# Altium footprint library PQFP-256_40x28x05P.PcbLib: 1 footprints
Each footprint in its own frame and in the unit in brackets; x right, y up, seen from the top. Pads: shape width x height; smd on the part's side, far side on the other; paste and mask are expansions set on the pad; w line width, h text height; cw(c..) or ccw(c..) is an arc to the next point about the centre after c.
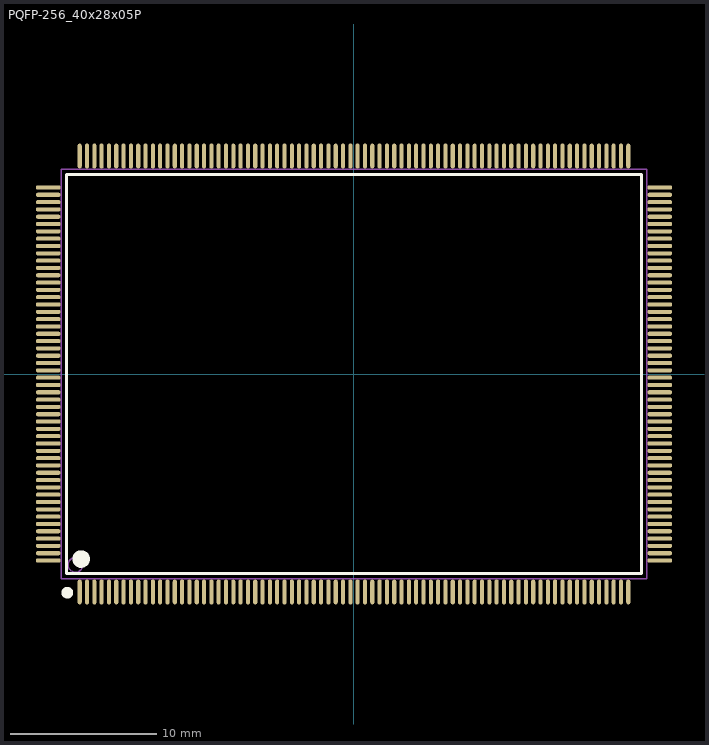
[diagram p0: the footprint, top view; thin cyan lines are the x and y axes]

## PQFP-256_40x28x05P [mm] "Shrink QFP, 256-Leads, Body 40x28 mm, Pitch 0.5mm, IPC Medium Density"
pads (256):
  oval 0.28x1.7 smd mask+0.051: 1(-18.75,-14.9) 2(-18.25,-14.9) 3(-17.75,-14.9) 4(-17.25,-14.9) 5(-16.75,-14.9) 6(-16.25,-14.9) 7(-15.75,-14.9) 8(-15.25,-14.9) 9(-14.75,-14.9) 10(-14.25,-14.9) 11(-13.75,-14.9) 12(-13.25,-14.9) 13(-12.75,-14.9) 14(-12.25,-14.9) 15(-11.75,-14.9) 16(-11.25,-14.9) 17(-10.75,-14.9) 18(-10.25,-14.9) 19(-9.75,-14.9) 20(-9.25,-14.9) 21(-8.75,-14.9) 22(-8.25,-14.9) 23(-7.75,-14.9) 24(-7.25,-14.9) 25(-6.75,-14.9) 26(-6.25,-14.9) 27(-5.75,-14.9) 28(-5.25,-14.9) 29(-4.75,-14.9) 30(-4.25,-14.9) 31(-3.75,-14.9) 32(-3.25,-14.9) 33(-2.75,-14.9) 34(-2.25,-14.9) 35(-1.75,-14.9) 36(-1.25,-14.9) 37(-0.75,-14.9) 38(-0.25,-14.9) 39(0.25,-14.9) 40(0.75,-14.9) 41(1.25,-14.9) 42(1.75,-14.9) 43(2.25,-14.9) 44(2.75,-14.9) 45(3.25,-14.9) 46(3.75,-14.9) 47(4.25,-14.9) 48(4.75,-14.9) 49(5.25,-14.9) 50(5.75,-14.9) 51(6.25,-14.9) 52(6.75,-14.9) 53(7.25,-14.9) 54(7.75,-14.9) 55(8.25,-14.9) 56(8.75,-14.9) 57(9.25,-14.9) 58(9.75,-14.9) 59(10.25,-14.9) 60(10.75,-14.9) 61(11.25,-14.9) 62(11.75,-14.9) 63(12.25,-14.9) 64(12.75,-14.9) 65(13.25,-14.9) 66(13.75,-14.9) 67(14.25,-14.9) 68(14.75,-14.9) 69(15.25,-14.9) 70(15.75,-14.9) 71(16.25,-14.9) 72(16.75,-14.9) 73(17.25,-14.9) 74(17.75,-14.9) 75(18.25,-14.9) 76(18.75,-14.9) 129(18.75,14.9) 130(18.25,14.9) 131(17.75,14.9) 132(17.25,14.9) 133(16.75,14.9) 134(16.25,14.9) 135(15.75,14.9) 136(15.25,14.9) 137(14.75,14.9) 138(14.25,14.9) 139(13.75,14.9) 140(13.25,14.9) 141(12.75,14.9) 142(12.25,14.9) 143(11.75,14.9) 144(11.25,14.9) 145(10.75,14.9) 146(10.25,14.9) 147(9.75,14.9) 148(9.25,14.9) 149(8.75,14.9) 150(8.25,14.9) 151(7.75,14.9) 152(7.25,14.9) 153(6.75,14.9) 154(6.25,14.9) 155(5.75,14.9) 156(5.25,14.9) 157(4.75,14.9) 158(4.25,14.9) 159(3.75,14.9) 160(3.25,14.9) 161(2.75,14.9) 162(2.25,14.9) 163(1.75,14.9) 164(1.25,14.9) 165(0.75,14.9) 166(0.25,14.9) 167(-0.25,14.9) 168(-0.75,14.9) 169(-1.25,14.9) 170(-1.75,14.9) 171(-2.25,14.9) 172(-2.75,14.9) 173(-3.25,14.9) 174(-3.75,14.9) 175(-4.25,14.9) 176(-4.75,14.9) 177(-5.25,14.9) 178(-5.75,14.9) 179(-6.25,14.9) 180(-6.75,14.9) 181(-7.25,14.9) 182(-7.75,14.9) 183(-8.25,14.9) 184(-8.75,14.9) 185(-9.25,14.9) 186(-9.75,14.9) 187(-10.25,14.9) 188(-10.75,14.9) 189(-11.25,14.9) 190(-11.75,14.9) 191(-12.25,14.9) 192(-12.75,14.9) 193(-13.25,14.9) 194(-13.75,14.9) 195(-14.25,14.9) 196(-14.75,14.9) 197(-15.25,14.9) 198(-15.75,14.9) 199(-16.25,14.9) 200(-16.75,14.9) 201(-17.25,14.9) 202(-17.75,14.9) 203(-18.25,14.9) 204(-18.75,14.9)
  oval 1.7x0.28 smd mask+0.051: 77(20.9,-12.75) 78(20.9,-12.25) 79(20.9,-11.75) 80(20.9,-11.25) 81(20.9,-10.75) 82(20.9,-10.25) 83(20.9,-9.75) 84(20.9,-9.25) 85(20.9,-8.75) 86(20.9,-8.25) 87(20.9,-7.75) 88(20.9,-7.25) 89(20.9,-6.75) 90(20.9,-6.25) 91(20.9,-5.75) 92(20.9,-5.25) 93(20.9,-4.75) 94(20.9,-4.25) 95(20.9,-3.75) 96(20.9,-3.25) 97(20.9,-2.75) 98(20.9,-2.25) 99(20.9,-1.75) 100(20.9,-1.25) 101(20.9,-0.75) 102(20.9,-0.25) 103(20.9,0.25) 104(20.9,0.75) 105(20.9,1.25) 106(20.9,1.75) 107(20.9,2.25) 108(20.9,2.75) 109(20.9,3.25) 110(20.9,3.75) 111(20.9,4.25) 112(20.9,4.75) 113(20.9,5.25) 114(20.9,5.75) 115(20.9,6.25) 116(20.9,6.75) 117(20.9,7.25) 118(20.9,7.75) 119(20.9,8.25) 120(20.9,8.75) 121(20.9,9.25) 122(20.9,9.75) 123(20.9,10.25) 124(20.9,10.75) 125(20.9,11.25) 126(20.9,11.75) 127(20.9,12.25) 128(20.9,12.75) 205(-20.9,12.75) 206(-20.9,12.25) 207(-20.9,11.75) 208(-20.9,11.25) 209(-20.9,10.75) 210(-20.9,10.25) 211(-20.9,9.75) 212(-20.9,9.25) 213(-20.9,8.75) 214(-20.9,8.25) 215(-20.9,7.75) 216(-20.9,7.25) 217(-20.9,6.75) 218(-20.9,6.25) 219(-20.9,5.75) 220(-20.9,5.25) 221(-20.9,4.75) 222(-20.9,4.25) 223(-20.9,3.75) 224(-20.9,3.25) 225(-20.9,2.75) 226(-20.9,2.25) 227(-20.9,1.75) 228(-20.9,1.25) 229(-20.9,0.75) 230(-20.9,0.25) 231(-20.9,-0.25) 232(-20.9,-0.75) 233(-20.9,-1.25) 234(-20.9,-1.75) 235(-20.9,-2.25) 236(-20.9,-2.75) 237(-20.9,-3.25) 238(-20.9,-3.75) 239(-20.9,-4.25) 240(-20.9,-4.75) 241(-20.9,-5.25) 242(-20.9,-5.75) 243(-20.9,-6.25) 244(-20.9,-6.75) 245(-20.9,-7.25) 246(-20.9,-7.75) 247(-20.9,-8.25) 248(-20.9,-8.75) 249(-20.9,-9.25) 250(-20.9,-9.75) 251(-20.9,-10.25) 252(-20.9,-10.75) 253(-20.9,-11.25) 254(-20.9,-11.75) 255(-20.9,-12.25) 256(-20.9,-12.75)
Top Overlay:
  circle w0.4: c-19.6,-14.95 r0.2
  circle w0.6: c-18.65,-12.65 r0.3
  lines w0.2: -19.65,-13.65 19.65,-13.65 19.65,13.65 -19.65,13.65 -19.65,-13.65
Mechanical 13:
  circle w0.1: c-19.05,-13.05 r0.5
  lines w0.1: -20,-14 20,-14 20,14 -20,14 -20,-14